# EAGLE library part NTS0104PW (library Z_GessIOMod)
Dual supply translating transceiver,TSSOP-14
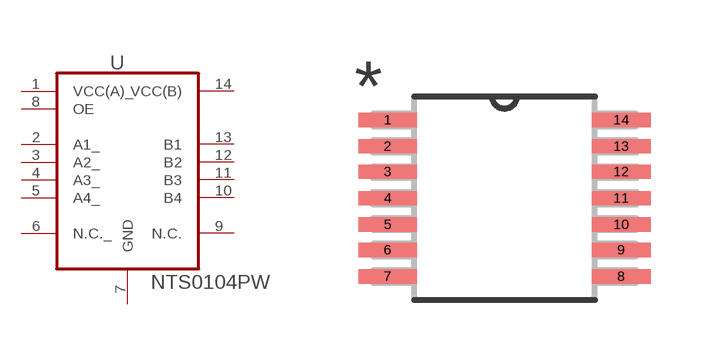
[diagram p5: symbol with the pads of SOP65P640X110-14N; footprint SOP65P640X110-14N]

Designator prefix U

## NTS0104PW (MPN: NTS0104PW; OC_FARNELL: 2164815; OC_NEWARK: 55W4246; PACKAGE: TSSOP-14; SUPPLIER: NXP)  [SOP65P640X110-14N]
1  VCC(A)_  pwr
2  A1_
3  A2_
4  A3_
5  A4_
6  N.C._  nc
7  GND  pas
8  OE  in
9  N.C.  nc
10  B4
11  B3
12  B2
13  B1
14  VCC(B)  pwr

## Footprint SOP65P640X110-14N (pad centres in mm)
smd 1.473 x 0.356: 1 -2.921,1.956; 2 -2.921,1.295; 3 -2.921,0.66; 4 -2.921,0; 5 -2.921,-0.66; 6 -2.921,-1.295; 7 -2.921,-1.956; 8 2.921,-1.956; 9 2.921,-1.295; 10 2.921,-0.66; 11 2.921,0; 12 2.921,0.66; 13 2.921,1.295; 14 2.921,1.956